# Altium schematic symbol library YAGEO-AT-Series.SchLib: 1 symbol
Pins are listed as number, name and electrical type; pins without a type are passive.

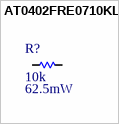
[diagram p0: symbol AT0402FRE0710KL]

## AT0402FRE0710KL
designator R?  value 10k  Value2: 62.5mW  (hidden comment: AT0402FRE0710KL)
10 kOhms ±1% 0.063W, 1/16W Chip Resistor 0402 (1005 Metric) Anti-Sulfur, Automotive AEC-Q200, Moisture Resistant Thin Film; Type: AT0402FRE0710KL
footprint AT0402_C (Chip Resistor, 2-Leads, Body 1.00x0.50mm, IPC High Density)
pins: 1, 2